# Altium schematic symbol library SN74HC245DWR.SchLib: 1 symbol
Pins are listed as number, name and electrical type; pins without a type are passive.

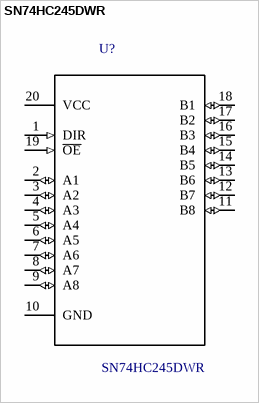
[diagram p0: symbol SN74HC245DWR]

## SN74HC245DWR
designator U?
Logic IC - Receiver, transceiver Texas Instruments SN74HC245DWR SOIC 20; Price: None; Availability: Unavailable; MP: SN74HC245DWR; Package: SOIC-20 Texas Instruments; SnapEDA_Link: https://www.snapeda.com/parts/SN74HC245DWR/Texas%20Instruments/view-part/?ref=snap; MF: Texas Instruments; Value: *
footprint *SOIC127P1030X265-20N
pins: 1 DIR (in), 2 A1 (io), 3 A2 (io), 4 A3 (io), 5 A4 (io), 6 A5 (io), 7 A6 (io), 8 A7 (io), 9 A8 (io), 10 GND, 11 B8 (io), 12 B7 (io), 13 B6 (io), 14 B5 (io), 15 B4 (io), 16 B3 (io), 17 B2 (io), 18 B1 (io), 19 ~{OE} (in), 20 VCC (power)